# EAGLE library part DISP-CC56-12GWA (library Namenlos)
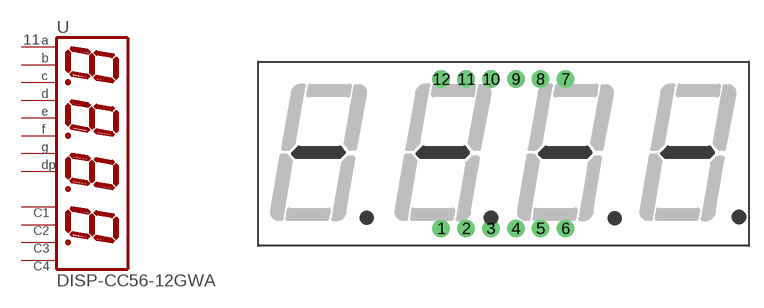
[diagram p17: symbol with the pads of 0,56_4X7SEG_LED; footprint 0,56_4X7SEG_LED]

Designator prefix -

## DISP-CC56-12GWA  [0,56_4X7SEG_LED]
1  E  pas
2  D  pas
3  DP  pas
4  C  pas
5  G  pas
6  С4
7  B  pas
8  С3
9  С2
10  F  pas
11  A  pas
12  С1

## Footprint 0,56_4X7SEG_LED (pad centres in mm)
drill 0.5 pad 1.778: 1 -6.35,-7.62; 2 -3.81,-7.62; 3 -1.27,-7.62; 4 1.27,-7.62; 5 3.81,-7.62; 6 6.35,-7.62; 7 6.35,7.62; 8 3.81,7.62; 9 1.27,7.62; 10 -1.27,7.62; 11 -3.81,7.62; 12 -6.35,7.62